# EAGLE library part FCR1116_DUAL_MONO_635_JK (library jason_eagle6)
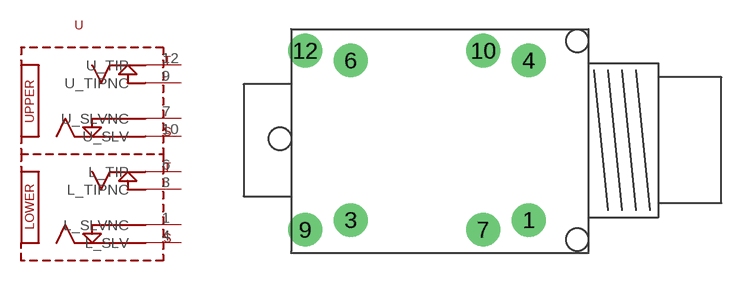
[diagram p68: symbol with the pads of FCR1116_STACK_SOCKET; footprint FCR1116_STACK_SOCKET]

Designator prefix -

## FCR1116_DUAL_MONO_635_JK  [FCR1116_STACK_SOCKET]
1  L_SLVNC
3  L_TIPNC
4  L_SLV
6  L_TIP
7  U_SLVNC
9  U_TIPNC
10  U_SLV
12  U_TIP

## Footprint FCR1116_STACK_SOCKET (pad centres in mm)
drill 1.6: 1 6.35,-5.7; 3 -6.35,-5.7; 4 6.35,5.7; 6 -6.35,5.7; 7 3.1,-6.4; 9 -9.6,-6.4; 10 3.1,6.4; 12 -9.6,6.4